# EAGLE library part MSL0402RGBU1 (library MSL0402RGBU1)
Multi-Color LEDs RGB 624/527/470nm 5V 400/550/180mcd 30mA Source: Datasheet <https://www.mouser.ph/ProductDetail/ROHM-Semiconductor/MSL0402RGBU1?qs=4v%2biZTmLVHE3LHOuFnEVGg==>
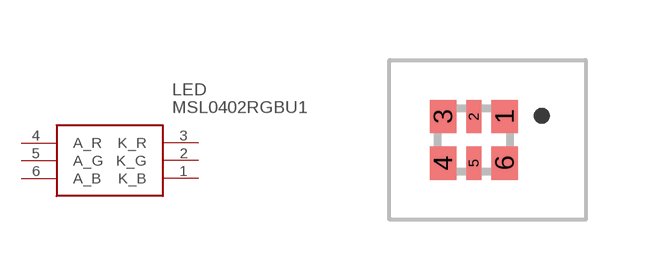
[diagram p0: symbol with the pads of MSL0402RGBU1; footprint MSL0402RGBU1]

Designator prefix LED

## MSL0402RGBU1 (Description: Multi-Color LEDs RGB 624/527/470nm 5V 400/550/180mcd 30mA; Height: 0mm; Manufacturer_Name: ROHM Semiconductor; Manufacturer_Part_Number: MSL0402RGBU1; Mouser_Part_Number: 755-MSL0402RGBU1; Mouser_Price-Stock: https://www.mouser.co.uk/ProductDetail/ROHM-Semiconductor/MSL0402RGBU1?qs=4v%252BiZTmLVHE3LHOuFnEVGg%3D%3D)  [MSL0402RGBU1]
1  K_B
2  K_G
3  K_R
4  A_R
5  A_G
6  A_B

## Footprint MSL0402RGBU1 (pad centres in mm)
MSL0402RGBU1
smd 0.67 x 0.83: 1 0.32,0.585; 3 -1.22,0.585; 4 -1.22,-0.585; 6 0.32,-0.585
smd 0.37 x 0.83: 2 -0.45,0.585; 5 -0.45,-0.585